# EAGLE library part 80C535 (library newchips)
SIEMENS 8-bit CMOS Single-chip microcontroler
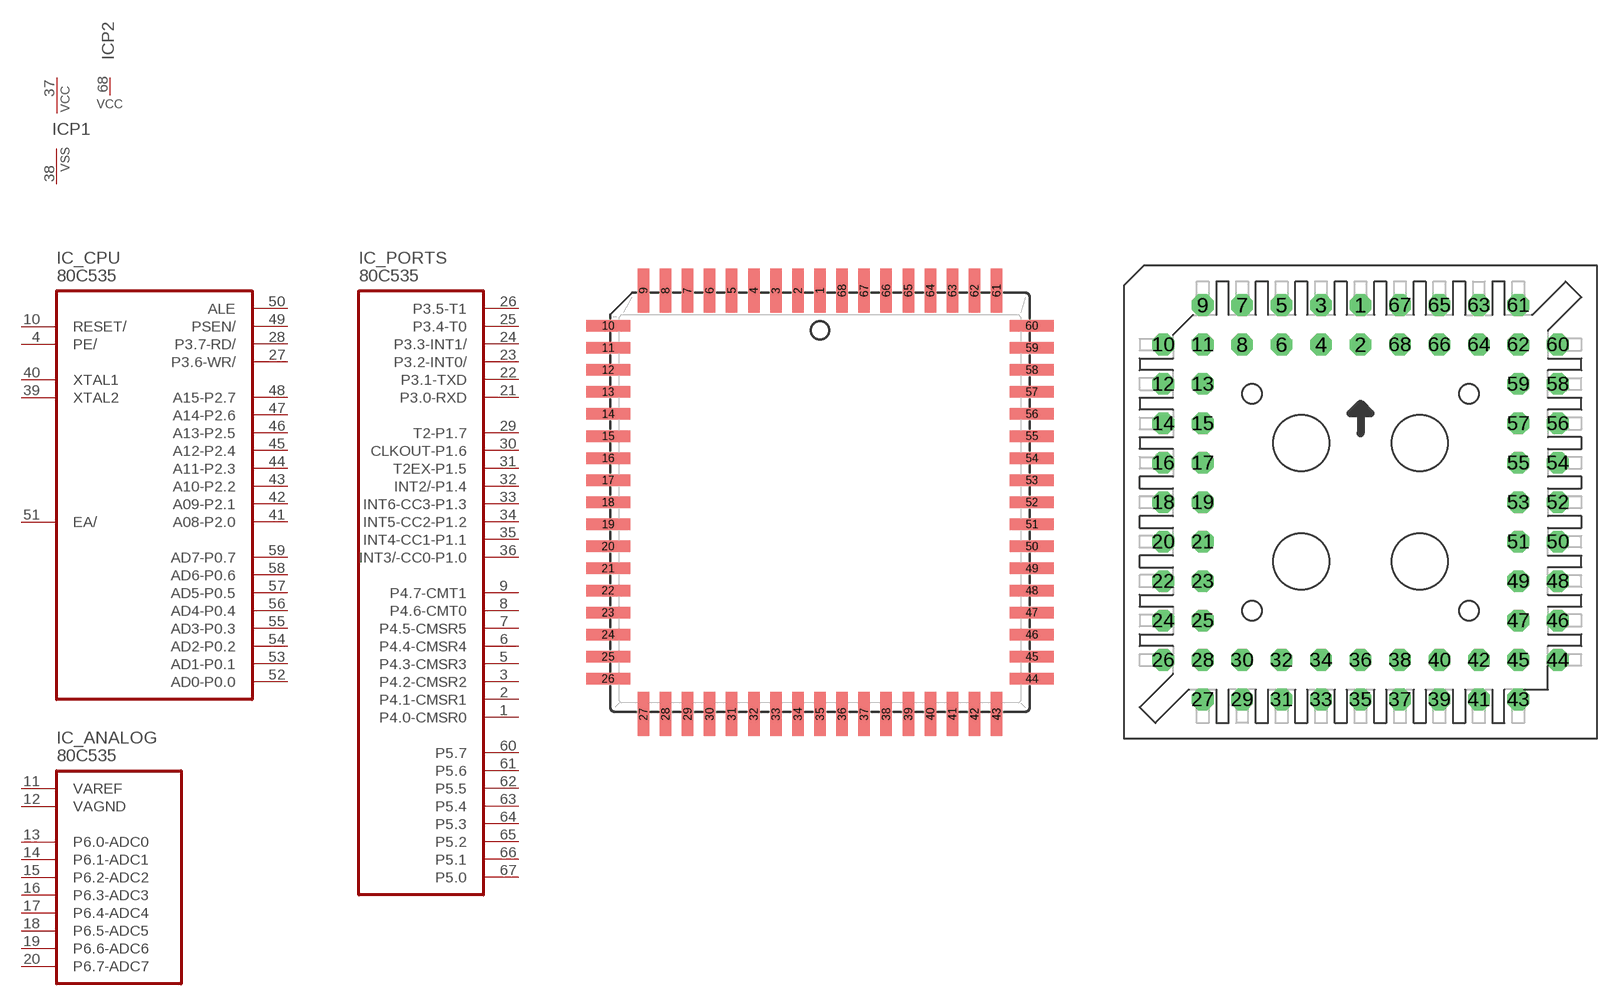
[diagram p3: symbol with the pads of PLCC68; footprints PLCC68, PLCC-S68]

Designator prefix IC; gates _PORTS=535_PORTS _ANALOG=535_ANALOG P1=VCCVSS _CPU=535_CPU P2=VCC

## 80C535PLCC  [PLCC68]
1  _PORTS:P4.0-CMSR0
2  _PORTS:P4.1-CMSR1
3  _PORTS:P4.2-CMSR2
4  _CPU:PE/  in
5  _PORTS:P4.3-CMSR3
6  _PORTS:P4.4-CMSR4
7  _PORTS:P4.5-CMSR5
8  _PORTS:P4.6-CMT0
9  _PORTS:P4.7-CMT1
10  _CPU:RESET/  in
11  _ANALOG:VAREF  in
12  _ANALOG:VAGND  in
13  _ANALOG:P6.0-ADC0
14  _ANALOG:P6.1-ADC1
15  _ANALOG:P6.2-ADC2
16  _ANALOG:P6.3-ADC3
17  _ANALOG:P6.4-ADC4
18  _ANALOG:P6.5-ADC5
19  _ANALOG:P6.6-ADC6
20  _ANALOG:P6.7-ADC7
21  _PORTS:P3.0-RXD
22  _PORTS:P3.1-TXD
23  _PORTS:P3.2-INT0/
24  _PORTS:P3.3-INT1/
25  _PORTS:P3.4-T0
26  _PORTS:P3.5-T1
27  _CPU:P3.6-WR/
28  _CPU:P3.7-RD/
29  _PORTS:T2-P1.7
30  _PORTS:CLKOUT-P1.6
31  _PORTS:T2EX-P1.5
32  _PORTS:INT2/-P1.4
33  _PORTS:INT6-CC3-P1.3
34  _PORTS:INT5-CC2-P1.2
35  _PORTS:INT4-CC1-P1.1
36  _PORTS:INT3/-CC0-P1.0
37  P1:VCC  pwr
38  P1:VSS  pwr
39  _CPU:XTAL2  out
40  _CPU:XTAL1  in
41  _CPU:A08-P2.0
42  _CPU:A09-P2.1
43  _CPU:A10-P2.2
44  _CPU:A11-P2.3
45  _CPU:A12-P2.4
46  _CPU:A13-P2.5
47  _CPU:A14-P2.6
48  _CPU:A15-P2.7
49  _CPU:PSEN/  out
50  _CPU:ALE  out
51  _CPU:EA/  in
52  _CPU:AD0-P0.0
53  _CPU:AD1-P0.1
54  _CPU:AD2-P0.2
55  _CPU:AD3-P0.3
56  _CPU:AD4-P0.4
57  _CPU:AD5-P0.5
58  _CPU:AD6-P0.6
59  _CPU:AD7-P0.7
60  _PORTS:P5.7
61  _PORTS:P5.6
62  _PORTS:P5.5
63  _PORTS:P5.4
64  _PORTS:P5.3
65  _PORTS:P5.2
66  _PORTS:P5.1
67  _PORTS:P5.0
68  P2:VCC  pwr

## 80C535PLCC-S  [PLCC-S68]
Pads as for PLCC68

## Footprint PLCC68 (pad centres in mm)
Plastic Leaded Chip Carrier
smd 0.66 x 2.54: 1 0,12.192; 2 -1.27,12.192; 3 -2.54,12.192; 4 -3.81,12.192; 5 -5.08,12.192; 6 -6.35,12.192; 7 -7.62,12.192; 8 -8.89,12.192; 9 -10.16,12.192; 27 -10.16,-12.192; 28 -8.89,-12.192; 29 -7.62,-12.192; 30 -6.35,-12.192; 31 -5.08,-12.192; 32 -3.81,-12.192; 33 -2.54,-12.192; 34 -1.27,-12.192; 35 0,-12.192; 36 1.27,-12.192; 37 2.54,-12.192; 38 3.81,-12.192; 39 5.08,-12.192; 40 6.35,-12.192; 41 7.62,-12.192; 42 8.89,-12.192; 43 10.16,-12.192; 61 10.16,12.192; 62 8.89,12.192; 63 7.62,12.192; 64 6.35,12.192; 65 5.08,12.192; 66 3.81,12.192; 67 2.54,12.192; 68 1.27,12.192
smd 2.54 x 0.66: 10 -12.192,10.16; 11 -12.192,8.89; 12 -12.192,7.62; 13 -12.192,6.35; 14 -12.192,5.08; 15 -12.192,3.81; 16 -12.192,2.54; 17 -12.192,1.27; 18 -12.192,0; 19 -12.192,-1.27; 20 -12.192,-2.54; 21 -12.192,-3.81; 22 -12.192,-5.08; 23 -12.192,-6.35; 24 -12.192,-7.62; 25 -12.192,-8.89; 26 -12.192,-10.16; 44 12.192,-10.16; 45 12.192,-8.89; 46 12.192,-7.62; 47 12.192,-6.35; 48 12.192,-5.08; 49 12.192,-3.81; 50 12.192,-2.54; 51 12.192,-1.27; 52 12.192,0; 53 12.192,1.27; 54 12.192,2.54; 55 12.192,3.81; 56 12.192,5.08; 57 12.192,6.35; 58 12.192,7.62; 59 12.192,8.89; 60 12.192,10.16

## Footprint PLCC-S68 (pad centres in mm)
drill 0.813 pad 1.397 octagon: 1 0,12.7; 2 0,10.16; 3 -2.54,12.7; 4 -2.54,10.16; 5 -5.08,12.7; 6 -5.08,10.16; 7 -7.62,12.7; 8 -7.62,10.16; 9 -10.16,12.7; 10 -12.7,10.16; 11 -10.16,10.16; 12 -12.7,7.62; 13 -10.16,7.62; 14 -12.7,5.08; 15 -10.16,5.08; 16 -12.7,2.54; 17 -10.16,2.54; 18 -12.7,0; 19 -10.16,0; 20 -12.7,-2.54; 21 -10.16,-2.54; 22 -12.7,-5.08; 23 -10.16,-5.08; 24 -12.7,-7.62; 25 -10.16,-7.62; 26 -12.7,-10.16; 27 -10.16,-12.7; 28 -10.16,-10.16; 29 -7.62,-12.7; 30 -7.62,-10.16; 31 -5.08,-12.7; 32 -5.08,-10.16; 33 -2.54,-12.7; 34 -2.54,-10.16; 35 0,-12.7; 36 0,-10.16; 37 2.54,-12.7; 38 2.54,-10.16; 39 5.08,-12.7; 40 5.08,-10.16; 41 7.62,-12.7; 42 7.62,-10.16; 43 10.16,-12.7; 44 12.7,-10.16; 45 10.16,-10.16; 46 12.7,-7.62; 47 10.16,-7.62; 48 12.7,-5.08; 49 10.16,-5.08; 50 12.7,-2.54; 51 10.16,-2.54; 52 12.7,0; 53 10.16,0; 54 12.7,2.54; 55 10.16,2.54; 56 12.7,5.08; 57 10.16,5.08; 58 12.7,7.62; 59 10.16,7.62; 60 12.7,10.16; 61 10.16,12.7; 62 10.16,10.16; 63 7.62,12.7; 64 7.62,10.16; 65 5.08,12.7; 66 5.08,10.16; 67 2.54,12.7; 68 2.54,10.16